# EAGLE library part ISL1208 (library intersil)
I2C Real Time Clock/Calendar
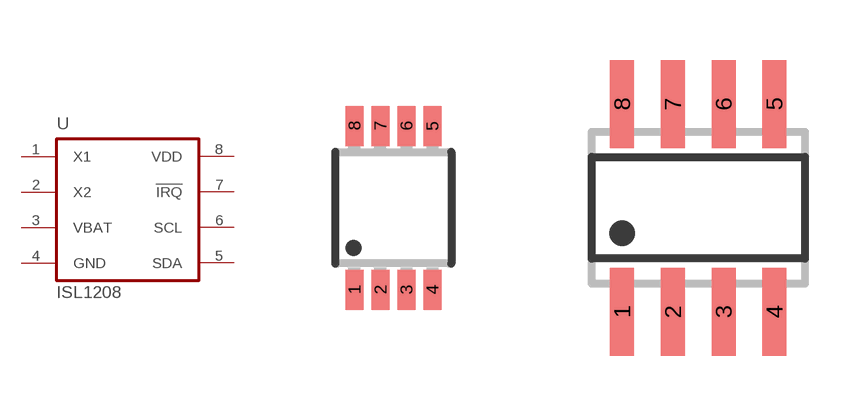
[diagram p0: symbol with the pads of MSOP8; footprints MSOP8, SO08]

Designator prefix U

## ISL1208IU  [MSOP8]
1  X1  in
2  X2  out
3  VBAT  in
4  GND  pwr
5  SDA
6  SCL  in
7  !IRQ!  out
8  VDD  pwr

## ISL1208IB  [SO08]
Pads as for MSOP8

## Footprint MSOP8 (pad centres in mm)
Micro Small Outline Package
smd 0.45 x 1: 1 -0.975,-2.05; 2 -0.325,-2.05; 3 0.325,-2.05; 4 0.975,-2.05; 5 0.975,2.05; 6 0.325,2.05; 7 -0.325,2.05; 8 -0.975,2.05

## Footprint SO08 (pad centres in mm)
SMALL OUTLINE INTEGRATED CIRCUIT body 3.9 mm/JEDEC MS-012AA
smd 0.6 x 2.2: 1 -1.905,-2.6; 2 -0.635,-2.6; 3 0.635,-2.6; 4 1.905,-2.6; 5 1.905,2.6; 6 0.635,2.6; 7 -0.635,2.6; 8 -1.905,2.6